# EAGLE library part MCP2515-I_P (library MCP2515-I_P)
Stand-Alone CAN Controller Source: Datasheet <http://uk.rs-online.com/web/p/products/1445764>
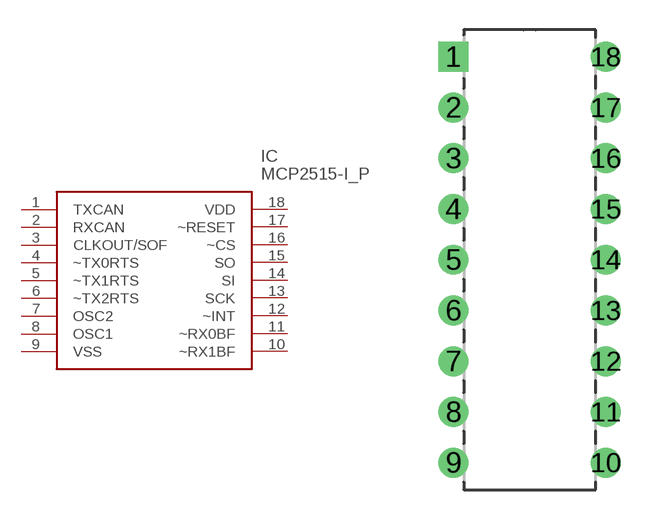
[diagram p0: symbol with the pads of DIP254P762X432-18; footprint DIP254P762X432-18]

Designator prefix IC

## MCP2515-I_P (Allied_Number: 70045398; Description: Stand-Alone CAN Controller; Height: mm; Manufacturer_Name: Microchip; Manufacturer_Part_Number: MCP2515-I/P; RS_Part_Number: 1445764)  [DIP254P762X432-18]
1  TXCAN
2  RXCAN
3  CLKOUT/SOF
4  ~TX0RTS
5  ~TX1RTS
6  ~TX2RTS
7  OSC2
8  OSC1
9  VSS
10  ~RX1BF
11  ~RX0BF
12  ~INT
13  SCK
14  SI
15  SO
16  ~CS
17  ~RESET
18  VDD

## Footprint DIP254P762X432-18 (pad centres in mm)
DIP254P762X432-18
drill 0.991 pad 1.486 square: 1 -7.62,20.32
drill 0.991 pad 1.486: 2 -7.62,17.78; 3 -7.62,15.24; 4 -7.62,12.7; 5 -7.62,10.16; 6 -7.62,7.62; 7 -7.62,5.08; 8 -7.62,2.54; 9 -7.62,0; 10 0,0; 11 0,2.54; 12 0,5.08; 13 0,7.62; 14 0,10.16; 15 0,12.7; 16 0,15.24; 17 0,17.78; 18 0,20.32